# Altium schematic symbol library USB_HDMI_DVI_Sch.SchLib: 1 symbol
Pins are listed as number, name and electrical type; pins without a type are passive.

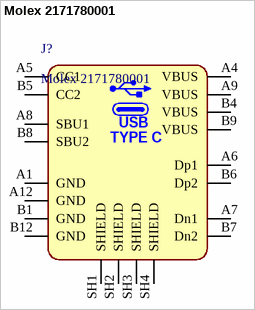
[diagram p0: symbol Molex 2171780001]

## Molex 2171780001
designator J?
USB-C (USB TYPE-C) USB 2.0 Receptacle Connector 24 (6+18 Dummy) Position Surface Mount, Through Hole; ComponentLink1Description: Link; ComponentLink1URL: https://www.digikey.com/en/products/detail/gct/USB4120-03-C/13547390; ComponentLink2Description: DataSheet; ComponentLink2URL: https://mm.digikey.com/Volume0/opasdata/d220001/medias/docus/5564/USB4120%20-%20USB%202.0%20Connector%20Type%20C%20Vertical%20Receptacle.pdf
footprint TYPEC_VERTICAL_16P
pins: A1 GND, A4 VBUS, A5 CC1, A6 Dp1, A7 Dn1, A8 SBU1, A9 VBUS, A12 GND, B1 GND, B4 VBUS, B5 CC2, B6 Dp2, B7 Dn2, B8 SBU2, B9 VBUS, B12 GND, SH1 SHIELD, SH2 SHIELD, SH3 SHIELD, SH4 SHIELD
text: USB; TYPE C